# Altium schematic symbol library CGA9P4X7T2W105K250KE.SchLib: 1 symbol
Pins are listed as number, name and electrical type; pins without a type are passive.

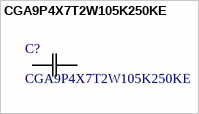
[diagram p0: symbol CGA9P4X7T2W105K250KE]

## CGA9P4X7T2W105K250KE
designator C?
No Description Available; Manufacturer_Name: TDK; Copyright: Copyright (C) 2026 Ultra Librarian. All rights reserved.; Manufacturer_Part_Number: CGA9P4X7T2W105K250KE
footprint CAP_5750_TDK
pins: 1, 2